# EAGLE library part OPA228U (library opa228)
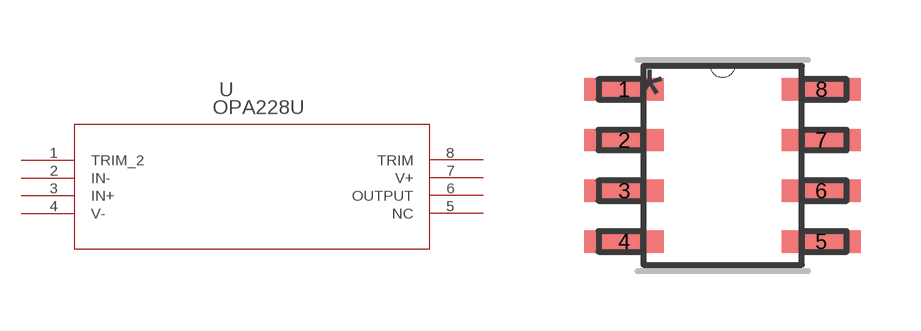
[diagram p0: symbol with the pads of D8; footprint D8]

Designator prefix -

## OPA228U (DATASHEETURL: http://www.ti.com/lit/gpn/OPA228; DESCRIPTION: High Precision, Low Noise Operational Amplifiers; FAMILY_NAME: LOW OFFSET VOLTAGE; GENERIC_PART_NUMBER: OPA228; INDUSTRY_STD_PKG_TYPE: SOIC; MANUFACTURER: Texas Instruments; MANUFACTURER_PART_NUMBER: opa228_d_8; PACKAGE_DESIGNATOR: D; PIN_COUNT: 8; VENDOR: Texas Instruments)  [D8]
1  TRIM_2  pas
2  IN-  in
3  IN+  in
4  V-  pwr
5  NC  pas
6  OUTPUT  out
7  V+  pwr
8  TRIM  pas

## Footprint D8 (pad centres in mm)
smd 1.981 x 0.559: 1 -2.464,1.905; 2 -2.464,0.635; 3 -2.464,-0.635; 4 -2.464,-1.905; 5 2.464,-1.905; 6 2.464,-0.635; 7 2.464,0.635; 8 2.464,1.905